# EAGLE library part 1X10 (library magzor-connectors)
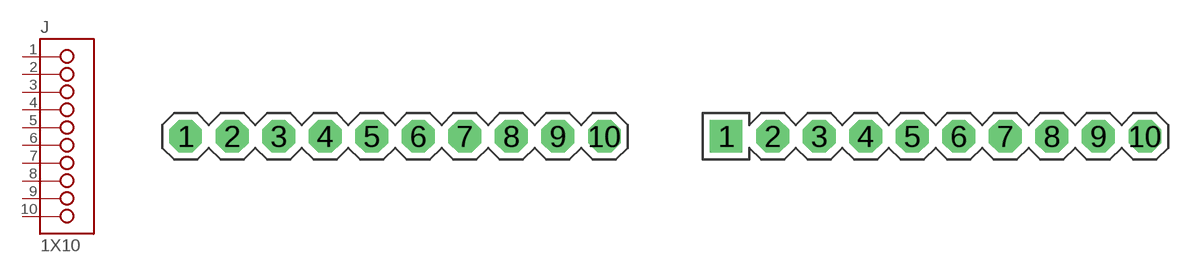
[diagram p2: symbol with the pads of P0.1IN-1X10; footprints P0.1IN-1X10, P0.1IN-1X10-1SQ]

Designator prefix J

## 1X10-0.1IN  [P0.1IN-1X10]
1  1
2  2
3  3
4  4
5  5
6  6
7  7
8  8
9  9
10  10

## 1X10-0.1IN-1SQ  [P0.1IN-1X10-1SQ]
Pads as for P0.1IN-1X10

## Footprint P0.1IN-1X10 (pad centres in mm)
drill 0.965 pad 1.778 octagon: 1 -11.43,0; 2 -8.89,0; 3 -6.35,0; 4 -3.81,0; 5 -1.27,0; 6 1.27,0; 7 3.81,0; 8 6.35,0; 9 8.89,0; 10 11.43,0

## Footprint P0.1IN-1X10-1SQ (pad centres in mm)
drill 0.965 pad 1.778 square: 1 -11.43,0
drill 0.965 pad 1.778 octagon: 2 -8.89,0; 3 -6.35,0; 4 -3.81,0; 5 -1.27,0; 6 1.27,0; 7 3.81,0; 8 6.35,0; 9 8.89,0; 10 11.43,0